# Altium footprint library Panasonic_ERJ_0603.PcbLib: 1 footprints
Each footprint in its own frame and in the unit in brackets; x right, y up, seen from the top. Pads: shape width x height; smd on the part's side, far side on the other; paste and mask are expansions set on the pad; w line width, h text height; cw(c..) or ccw(c..) is an arc to the next point about the centre after c.
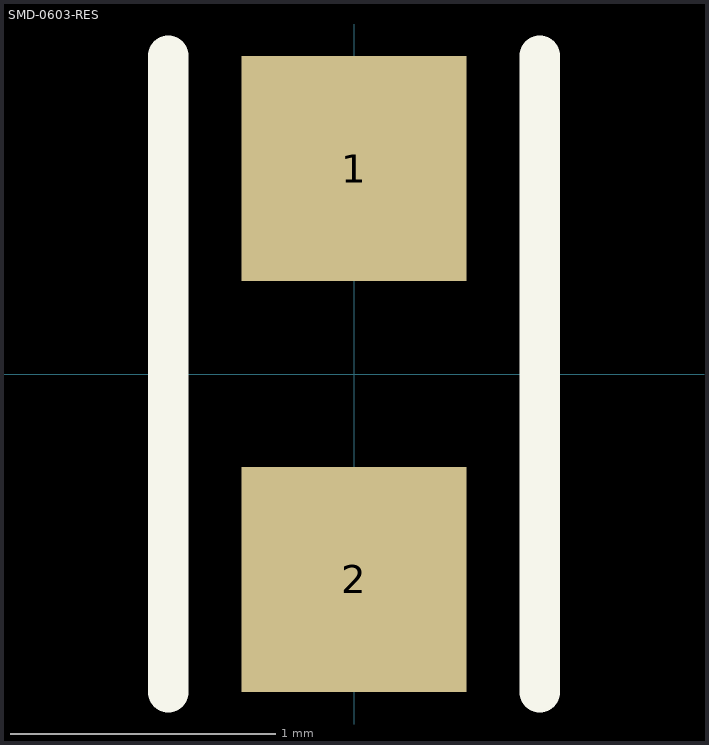
[diagram p0: the footprint, top view; thin cyan lines are the x and y axes]

## SMD-0603-RES [mm]
pads (2):
  rect 0.85x0.85 smd: 1(0,0.775) 2(0,-0.775)
Top Overlay:
  lines w0.152: -0.7,-1.2 -0.7,1.2 ; 0.7,-1.2 0.7,1.2
3D body "0603.step": height 0.56, standoff 0, extent -0.4,-0.85 0.4,0.85